# EAGLE library part FCI_89898_313LF_26P_CONNECTOR_SMT (library Nwazet.Go)
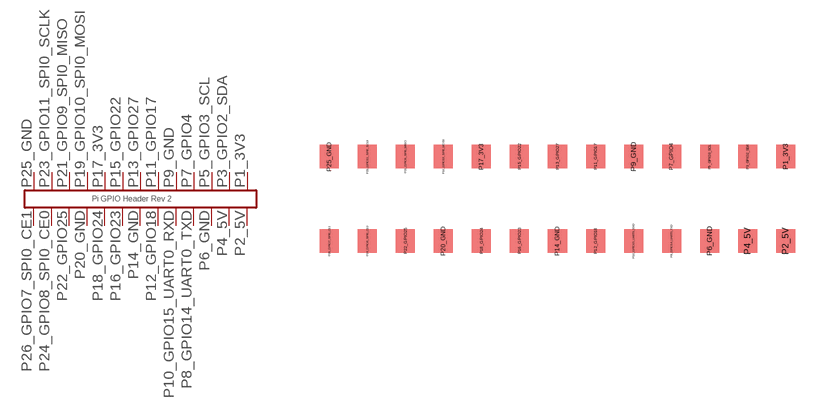
[diagram p16: symbol with the pads of FCI_89898_313LF_26P_CONNECTOR_SMT; footprint FCI_89898_313LF_26P_CONNECTOR_SMT]

Designator prefix -

## FCI_89898_313LF_26P_CONNECTOR_SMT  [FCI_89898_313LF_26P_CONNECTOR_SMT]
P1_3V3  P1_3V3  pwr
P2_5V  P2_5V  pwr
P3_GPIO2_SDA  P3_GPIO2_SDA
P4_5V  P4_5V  pwr
P5_GPIO3_SCL  P5_GPIO3_SCL
P6_GND  P6_GND  pas
P7_GPIO4  P7_GPIO4
P8_GPIO14_UART0_TXD  P8_GPIO14_UART0_TXD
P9_GND  P9_GND  pas
P10_GPIO15_UART0_RXD  P10_GPIO15_UART0_RXD
P11_GPIO17  P11_GPIO17
P12_GPIO18  P12_GPIO18
P13_GPIO27  P13_GPIO27
P14_GND  P14_GND  pas
P15_GPIO22  P15_GPIO22
P16_GPIO23  P16_GPIO23
P17_3V3  P17_3V3  pwr
P18_GPIO24  P18_GPIO24
P19_GPIO10_SPI0_MOSI  P19_GPIO10_SPI0_MOSI
P20_GND  P20_GND  pas
P21_GPIO9_SPI0_MISO  P21_GPIO9_SPI0_MISO
P22_GPIO25  P22_GPIO25
P23_GPIO11_SPI0_SCLK  P23_GPIO11_SPI0_SCLK
P24_GPIO8_SPI0_CE0  P24_GPIO8_SPI0_CE0
P25_GND  P25_GND  pas
P26_GPIO7_SPI0_CE1  P26_GPIO7_SPI0_CE1

## Footprint FCI_89898_313LF_26P_CONNECTOR_SMT (pad centres in mm)
smd 1.27 x 1.57: P1_3V3 15.24,2.815; P2_5V 15.24,-2.815; P3_GPIO2_SDA 12.7,2.815; P4_5V 12.7,-2.815; P5_GPIO3_SCL 10.16,2.815; P6_GND 10.16,-2.815; P7_GPIO4 7.62,2.815; P8_GPIO14_UART0_TXD 7.62,-2.815; P9_GND 5.08,2.815; P10_GPIO15_UART0_RXD 5.08,-2.815; P11_GPIO17 2.54,2.815; P12_GPIO18 2.54,-2.815; P13_GPIO27 0,2.815; P14_GND 0,-2.815; P15_GPIO22 -2.54,2.815; P16_GPIO23 -2.54,-2.815; P17_3V3 -5.08,2.815; P18_GPIO24 -5.08,-2.815; P19_GPIO10_SPI0_MOSI -7.62,2.815; P20_GND -7.62,-2.815; P21_GPIO9_SPI0_MISO -10.16,2.815; P22_GPIO25 -10.16,-2.815; P23_GPIO11_SPI0_SCLK -12.7,2.815; P24_GPIO8_SPI0_CE0 -12.7,-2.815; P25_GND -15.24,2.815; P26_GPIO7_SPI0_CE1 -15.24,-2.815